# EAGLE library part 2616-1102/020-000 (library con-wago_2616)
Stand: 01.01.2017. Die jeweils aktuellen Daten zu diesem Artikel finden Sie in unserem Produktkatalog, den Sie unter www.wago.com einsehen können. As of: 01/01/2017. Please find the newest data for this article in our product catalogue, which can be viewed under www.wago.com.
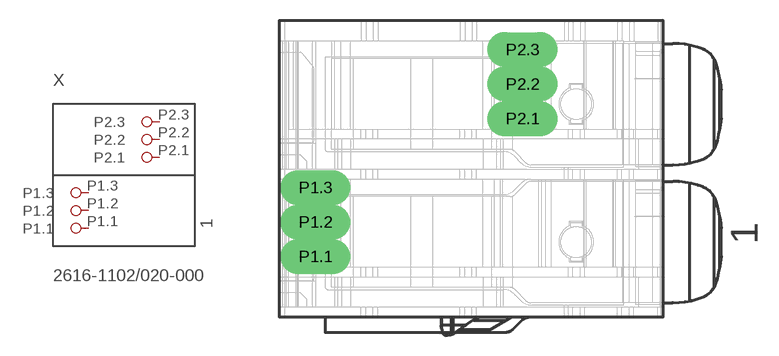
[diagram p1: symbol with the pads of P-2616-1102/020-000; footprint P-2616-1102/020-000]

Designator prefix X

## 2616-1102/020-000  [P-2616-1102/020-000]
P1.1  P1.1
P1.2  P1.2
P1.3  P1.3
P2.1  P2.1
P2.2  P2.2
P2.3  P2.3

## Footprint P-2616-1102/020-000 (pad centres in mm)
drill 1.7 long: P1.1 -13.4,-5.7; P1.2 -13.4,-3.2; P1.3 -13.4,-0.7; P2.1 1.6,4.3; P2.2 1.6,6.8; P2.3 1.6,9.3